# Altium footprint library PcbLib1.PcbLib: 5 footprints
Each footprint in its own frame and in the unit in brackets; x right, y up, seen from the top. Pads: shape width x height; smd on the part's side, far side on the other; paste and mask are expansions set on the pad; w line width, h text height; cw(c..) or ccw(c..) is an arc to the next point about the centre after c.
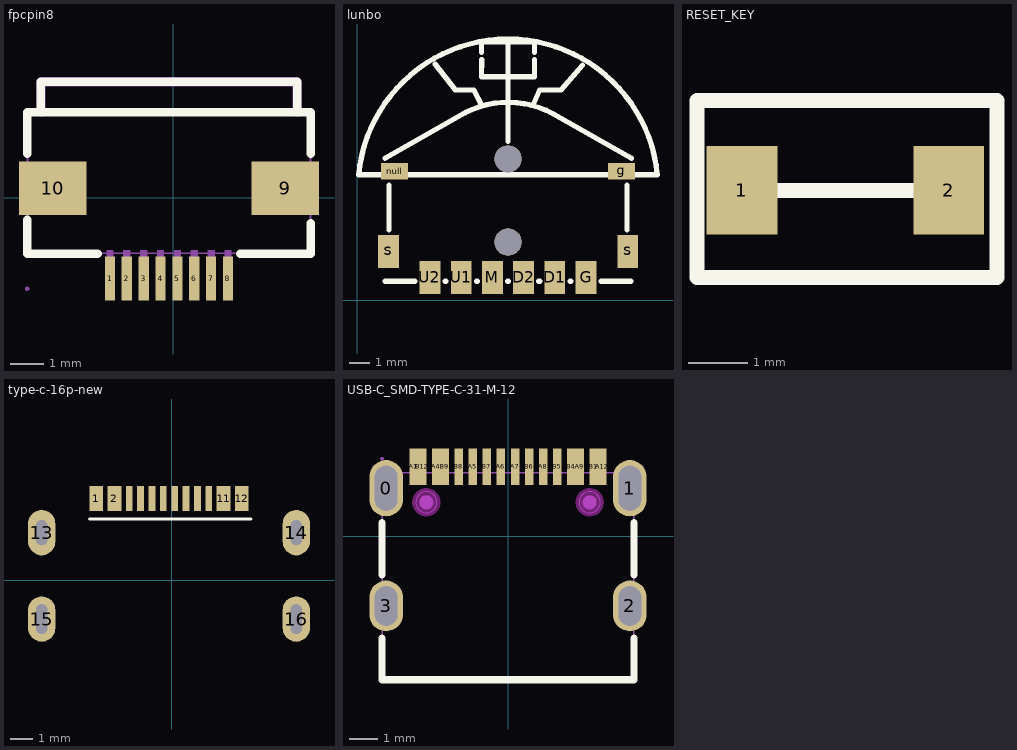
[diagram p0: the footprints below, top view; thin cyan lines are the x and y axes]

## fpcpin8 [mm]
pads (10):
  rect 0.3x1.3 smd paste+0 mask+0.05: 1(-1.872,-2.398) 2(-1.374,-2.396) 3(-0.872,-2.398) 4(-0.372,-2.398) 5(0.128,-2.398) 6(0.628,-2.398) 7(1.128,-2.398) 8(1.628,-2.398)
  rect 2x1.6 smd: 9(3.328,0.282) 10(-3.572,0.282)
Top Overlay:
  lines w0.254: -4.322,-0.658 -4.322,-1.658 -2.235,-1.658 ; -4.322,1.313 -4.322,2.542 4.078,2.542 4.078,1.313 ; -3.922,2.542 -3.922,3.442 3.678,3.442 3.678,2.542 ; 1.99,-1.658 4.078,-1.658 4.078,-0.749
Mechanical 6:
  region: -4.049,2.542 -4.049,3.442 -4.049,3.467 -4.03,3.514 -3.994,3.55 -3.947,3.569 -3.922,3.569 3.678,3.569 3.703,3.569 3.75,3.55 3.785,3.514 3.805,3.467 3.805,3.442 3.805,2.542 3.805,2.489 3.73,2.415 3.625,2.415 3.551,2.489 3.551,2.542 3.551,3.315 -3.795,3.315 -3.795,2.542 -3.795,2.489 -3.87,2.415 -3.975,2.415 -4.049,2.489 -4.049,2.542
Mechanical 15:
  region: -4.272,-2.698 -4.273,-2.674 -4.308,-2.64 -4.356,-2.64 -4.391,-2.674 -4.392,-2.698 -4.391,-2.722 -4.356,-2.756 -4.308,-2.756 -4.273,-2.722 -4.272,-2.698
  region: 0.028,-2.698 0.228,-2.698 0.228,-2.008 0.028,-2.008
  region: 2.868,0.822 4.078,0.822 4.088,-0.088 2.868,-0.088
  region: 0.528,-2.698 0.728,-2.698 0.728,-2.008 0.528,-2.008
  region: 1.028,-2.698 1.228,-2.698 1.228,-2.008 1.028,-2.008
  region: 1.528,-2.698 1.728,-2.698 1.728,-2.008 1.528,-2.008
  region: -0.472,-2.698 -0.272,-2.698 -0.272,-2.008 -0.472,-2.008
  region: -0.972,-2.698 -0.772,-2.698 -0.772,-2.008 -0.972,-2.008
  region: -1.474,-2.698 -1.274,-2.698 -1.274,-2.008 -1.474,-2.008
  region: -1.972,-2.698 -1.772,-2.698 -1.772,-2.008 -1.972,-2.008
  region: -3.112,-0.088 -4.322,-0.088 -4.332,0.822 -3.112,0.822
  region: -1.972,-2.058 -1.772,-2.058 -1.772,-1.558 -1.972,-1.558
  region: -1.474,-2.056 -1.274,-2.056 -1.274,-1.556 -1.474,-1.556
  region: -0.972,-2.058 -0.772,-2.058 -0.772,-1.558 -0.972,-1.558
  region: -0.472,-2.058 -0.272,-2.058 -0.272,-1.558 -0.472,-1.558
  region: 0.028,-2.058 0.228,-2.058 0.228,-1.558 0.028,-1.558
  region: 0.528,-2.058 0.728,-2.058 0.728,-1.558 0.528,-1.558
  region: 1.028,-2.058 1.228,-2.058 1.228,-1.558 1.028,-1.558
  region: 1.528,-2.058 1.728,-2.058 1.728,-1.558 1.528,-1.558
  lines w0.051: -4.322,-1.648 -4.322,2.502 -3.922,2.502 -3.372,2.502 -3.372,2.552 -3.922,2.552 -3.922,3.442 3.678,3.442 3.678,2.552 3.128,2.552 3.128,2.502 4.078,2.502 4.078,-1.638 4.068,-1.648 -4.322,-1.648

## lunbo [mm]
pads (12):
  rect 1x1.6 smd: D1(9.489,1.087) D2(7.989,1.087) G(10.989,1.087) M(6.489,1.087) s(1.489,2.337) s(12.989,2.337) U1(4.989,1.087) U2(3.489,1.087)
  rect 1.3x0.8 smd: g(12.689,6.187) null(1.789,6.187)
  round 1.3 hole 1.3 unplated: ""(7.239,2.787) ""(7.239,6.787)
Top Overlay:
  lines w0.254: 1.332,6.817 5.179,9.008 ; 1.339,0.907 2.758,0.907 ; 1.524,3.366 1.524,5.525 ; 3.747,11.332 4.699,10.097 5.588,10.097 5.995,9.332 ; 4.22,0.907 4.258,0.907 ; 5.179,9.007 cw(c7.239,5.017) 9.398,8.954 13.17,6.817 ; 5.72,0.907 5.758,0.907 ; 5.969,11.892 5.969,12.409 8.509,12.409 8.511,11.892 ; 5.972,11.543 5.969,10.732 8.509,10.732 8.512,11.542 ; 7.22,0.907 7.258,0.907 ; 7.239,7.628 7.239,12.517 ; 8.429,9.347 8.763,10.097 9.779,10.097 10.823,11.28 ; 8.72,0.907 8.758,0.907 ; 10.22,0.907 10.258,0.907 ; 11.72,0.907 13.149,0.907 ; 12.954,3.368 12.954,5.525 ; 0.063,6.017 cw(c7.239,5.337) 14.414,6.017 0.064,6.017

## RESET_KEY [mm]
pads (2):
  rect 1.2x1.5 smd: 1(-289.814,41.148) 2(-286.314,41.148)
Top Overlay:
  lines w0.254: -289.814,41.148 -286.314,41.148 ; -290.576,39.672 -285.496,39.672 -285.496,42.672 -290.576,42.672 -290.576,39.672

## type-c-16p-new [mm]
pads (16):
  rect 0.6x1.1 smd paste-100 mask+0.05: 1(-3.327,3.59) 2(-2.527,3.59) 11(2.273,3.59) 12(3.073,3.59)
  rect 0.3x1.1 smd paste-100 mask+0.05: 3(-1.877,3.59) 4(-1.377,3.59) 5(-0.877,3.59) 6(-0.377,3.59) 7(0.123,3.59) 8(0.623,3.59) 9(1.123,3.59) 10(1.623,3.59)
  oval 1.2x2 hole 0.5 slot 1.1 at 90 deg: 13(-5.727,2.097) 14(5.473,2.097)
  oval 1.2x2 hole 0.5 slot 1.3 at 90 deg: 15(-5.727,-1.703) 16(5.473,-1.703)
Top Overlay:
  lines w0.15: -3.627,2.697 3.273,2.697 3.473,2.697
Top Paste:
  region: 1.473,4.141 1.773,4.141 1.773,3.041 1.473,3.041
  region: 0.973,4.141 1.273,4.141 1.273,3.041 0.973,3.041
  region: 2.773,4.14 3.373,4.14 3.373,3.04 2.773,3.04
  region: 1.973,4.141 2.573,4.141 2.573,3.041 1.973,3.041
  region: -0.027,4.141 0.273,4.141 0.273,3.041 -0.027,3.041
  region: -3.627,4.141 -3.027,4.141 -3.027,3.041 -3.627,3.041
  region: -1.527,4.141 -1.227,4.141 -1.227,3.041 -1.527,3.041
  region: -0.527,4.141 -0.227,4.141 -0.227,3.041 -0.527,3.041
  region: -2.827,4.141 -2.227,4.141 -2.227,3.041 -2.827,3.041
  region: -2.027,4.141 -1.727,4.141 -1.727,3.041 -2.027,3.041
  region: 0.473,4.141 0.773,4.141 0.773,3.041 0.473,3.041
  region: -1.027,4.141 -0.727,4.141 -0.727,3.041 -1.027,3.041
3D body "TYPEC_6P.STEP": height 1.59, standoff -1.57, extent -5.827,-3.503 5.573,3.047

## USB-C_SMD-TYPE-C-31-M-12 [mm]
pads (20):
  oval 1.2x2 hole 0.8 slot 1.6 at 90 deg: 0(-4.325,1.706) 1(4.325,1.706)
  oval 1.2x1.8 hole 0.8 slot 1.4 at 90 deg: 2(4.325,-2.474) 3(-4.325,-2.474)
  rect 0.3x1.3 smd paste-100 mask+0.051: A1(-3.35,2.474) A4(-2.55,2.474) A5(-1.25,2.474) A6(-0.25,2.474) A7(0.25,2.474) A8(1.25,2.474) A9(2.55,2.474) A12(3.35,2.474) B1(3.05,2.474) B4(2.25,2.474) B5(1.75,2.474) B6(0.75,2.474) B7(-0.75,2.474) B8(-1.75,2.474) B9(-2.25,2.474) B12(-3.05,2.474)
Top Overlay:
  lines w0.254: -4.469,-3.613 -4.469,-5.094 4.471,-5.094 4.471,-3.612 ; -4.469,-1.376 -4.469,0.487 ; 4.471,-1.376 4.471,0.488
Top Paste:
  drawing of 16 lines, arcs and shapes, not listed
Keep-Out Layer:
  board cut-out: -2.525,1.206 -2.525,1.28 -2.582,1.418 -2.688,1.524 -2.825,1.581 -2.975,1.581 -3.112,1.524 -3.218,1.418 -3.275,1.28 -3.275,1.206 -3.275,1.131 -3.218,0.993 -3.112,0.888 -2.975,0.831 -2.825,0.831 -2.688,0.888 -2.582,0.993 -2.525,1.131
  board cut-out: 3.275,1.206 3.275,1.28 3.218,1.418 3.112,1.524 2.974,1.581 2.825,1.581 2.687,1.524 2.582,1.418 2.525,1.28 2.525,1.206 2.525,1.131 2.582,0.993 2.687,0.888 2.825,0.831 2.974,0.831 3.112,0.888 3.218,0.993 3.275,1.131
Keep-Out Layer:
  circle w0.025: c-2.9,1.206 r0.375
  circle w0.254: c-2.9,1.206 r0.375
  circle w0.025: c2.9,1.206 r0.375
  circle w0.254: c2.9,1.206 r0.375
Mechanical 1:
  circle w0.025: c-2.9,1.206 r0.375
  circle w0.025: c2.9,1.206 r0.375
Mechanical 6:
  circle w0.25: c2.9,1.206 r0.125
  circle w0.25: c-2.9,1.206 r0.125
Mechanical 15:
  region: -4.415,2.756 -4.416,2.78 -4.451,2.813 -4.499,2.813 -4.534,2.78 -4.535,2.756 -4.534,2.732 -4.499,2.699 -4.451,2.699 -4.416,2.732
  region: -4.475,-2.074 -4.175,-2.074 -4.175,-2.874 -4.475,-2.874
  region: 4.175,-2.074 4.475,-2.074 4.475,-2.874 4.175,-2.874
  region: 4.175,2.256 4.475,2.256 4.475,1.156 4.175,1.156
  region: -4.475,2.256 -4.175,2.256 -4.175,1.156 -4.475,1.156
  region: 3.21,2.756 3.41,2.756 3.41,2.056 3.21,2.056
  region: 3.01,2.756 3.21,2.756 3.21,2.056 3.01,2.056
  region: 1.65,2.756 1.85,2.756 1.85,2.056 1.65,2.056
  region: 1.15,2.756 1.35,2.756 1.35,2.056 1.15,2.056
  region: 0.65,2.756 0.85,2.756 0.85,2.056 0.65,2.056
  region: 0.15,2.756 0.35,2.756 0.35,2.056 0.15,2.056
  region: -0.35,2.756 -0.15,2.756 -0.15,2.056 -0.35,2.056
  region: -0.85,2.756 -0.65,2.756 -0.65,2.056 -0.85,2.056
  region: -1.35,2.756 -1.15,2.756 -1.15,2.056 -1.35,2.056
  region: -1.85,2.756 -1.65,2.756 -1.65,2.056 -1.85,2.056
  region: 2.41,2.756 2.61,2.756 2.61,2.056 2.41,2.056
  region: 2.21,2.756 2.41,2.756 2.41,2.056 2.21,2.056
  region: -2.41,2.756 -2.21,2.756 -2.21,2.056 -2.41,2.056
  region: -2.61,2.756 -2.41,2.756 -2.41,2.056 -2.61,2.056
  region: -3.21,2.756 -3.01,2.756 -3.01,2.056 -3.21,2.056
  region: -3.41,2.756 -3.21,2.756 -3.21,2.056 -3.41,2.056
  lines w0.051: -4.47,-5.094 -4.47,2.256 4.47,2.256 4.47,-5.094 -4.47,-5.094